# Altium footprint library SO芯片.PcbLib: 42 footprints (part 3 of 3)
Each footprint in its own frame and in the unit in brackets; x right, y up, seen from the top. Pads: shape width x height; smd on the part's side, far side on the other; paste and mask are expansions set on the pad; w line width, h text height; cw(c..) or ccw(c..) is an arc to the next point about the centre after c.
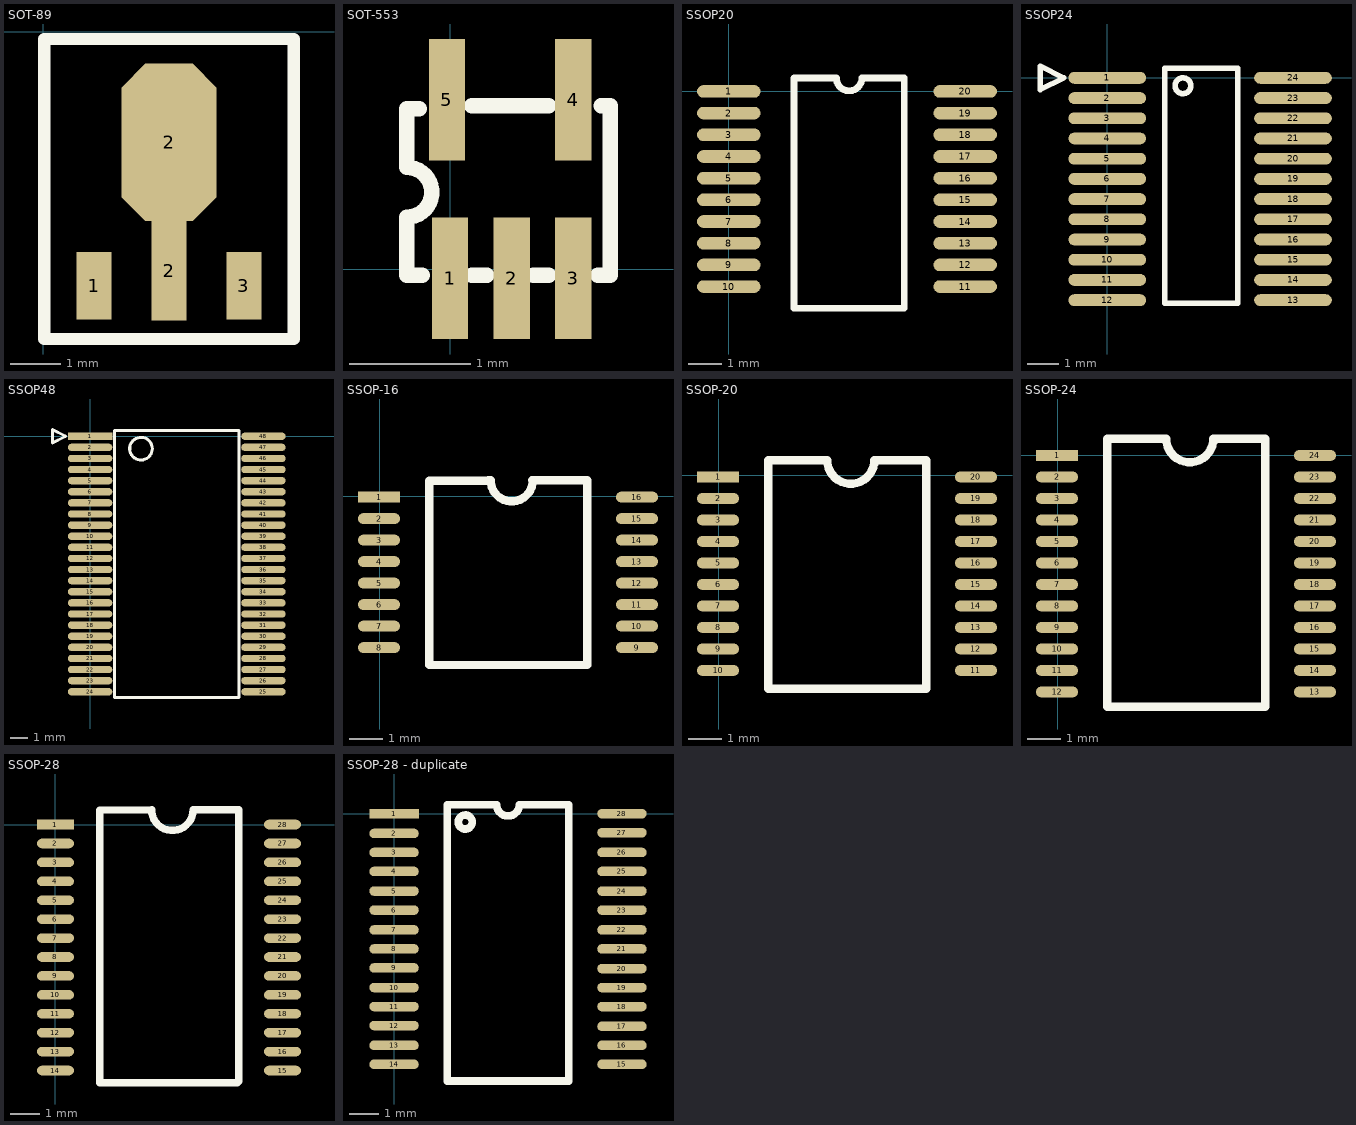
[diagram p2: the footprints below, top view; thin cyan lines are the x and y axes]

## SOT-89 [mm]
pads (4):
  rect 0.7x1.35 smd: 1(1.016,-5.08) 3(4.016,-5.08)
  rect 0.7x1.99 smd: 2(2.516,-4.785)
  oct 1.9x3.15 smd: 2(2.516,-2.215)
Top Overlay:
  lines w0.25: 0.016,-6.148 5.016,-6.148 5.016,-0.147 0.016,-0.147 0.016,-6.148

## SOT-553 [mm]
pads (5):
  rect 0.3x1 smd: 1(0,-0.076) 2(0.508,-0.076) 3(1.016,-0.076) 4(1.016,1.397) 5(-0.025,1.397)
Top Overlay:
  lines w0.127: -0.254,1.321 -0.356,1.321 -0.356,0.838 cw(c-0.356,0.633) -0.356,0.429 -0.356,-0.051 -0.229,-0.051 ; 0.178,-0.051 0.305,-0.051 ; 0.178,1.346 0.813,1.346 ; 0.686,-0.051 0.813,-0.051 ; 1.219,-0.051 1.321,-0.051 1.321,1.346 1.245,1.346

## SSOP20 [mm]
pads (20):
  oval 1.905x0.38 smd: 1(0,0) 2(0,-0.65) 3(0,-1.3) 4(0,-1.95) 5(0,-2.6) 6(0,-3.25) 7(0,-3.9) 8(0,-4.55) 9(0,-5.2) 10(0,-5.85) 11(7.087,-5.85) 12(7.087,-5.2) 13(7.087,-4.55) 14(7.087,-3.9) 15(7.087,-3.25) 16(7.087,-2.6) 17(7.087,-1.95) 18(7.087,-1.3) 19(7.087,-0.65) 20(7.087,0)
Top Overlay:
  lines w0.203: 1.956,-6.502 1.956,0.398 3.226,0.398 ccw(c3.607,0.398) 3.988,0.398 5.258,0.398 5.258,-6.502 1.956,-6.502

## SSOP24 [mm]
pads (24):
  oval 2.5x0.381 smd: 1(0,0) 2(0,-0.65) 3(0,-1.3) 4(0,-1.95) 5(0,-2.6) 6(0,-3.25) 7(0,-3.9) 8(0,-4.55) 9(0,-5.2) 10(0,-5.85) 11(0,-6.5) 12(0,-7.15) 13(5.975,-7.15) 14(5.975,-6.5) 15(5.975,-5.85) 16(5.975,-5.2) 17(5.975,-4.55) 18(5.975,-3.9) 19(5.975,-3.25) 20(5.975,-2.6) 21(5.975,-1.95) 22(5.975,-1.3) 23(5.975,-0.65) 24(5.975,0)
Top Overlay:
  circle w0.178: c2.434,-0.254 r0.254
  lines w0.178: -2.159,-0.381 -1.397,0 -2.159,0.381 -2.159,-0.381 ; 1.852,-7.245 4.198,-7.245 4.198,0.315 1.852,0.315 1.852,-7.245

## SSOP48 [mm]
pads (48):
  rect 2.54x0.42 smd: 1(0,0)
  oval 2.54x0.42 smd: 2(0,-0.635) 3(0,-1.27) 4(0,-1.905) 5(0,-2.54) 6(0,-3.175) 7(0,-3.81) 8(0,-4.445) 9(0,-5.08) 10(0,-5.715) 11(0,-6.35) 12(0,-6.985) 13(0,-7.62) 14(0,-8.255) 15(0,-8.89) 16(0,-9.525) 17(0,-10.16) 18(0,-10.795) 19(0,-11.43) 20(0,-12.065) 21(0,-12.7) 22(0,-13.335) 23(0,-13.97) 24(0,-14.605) 25(9.906,-14.605) 26(9.906,-13.97) 27(9.906,-13.335) 28(9.906,-12.7) 29(9.906,-12.065) 30(9.906,-11.43) 31(9.906,-10.795) 32(9.906,-10.16) 33(9.906,-9.525) 34(9.906,-8.89) 35(9.906,-8.255) 36(9.906,-7.62) 37(9.906,-6.985) 38(9.906,-6.35) 39(9.906,-5.715) 40(9.906,-5.08) 41(9.906,-4.445) 42(9.906,-3.81) 43(9.906,-3.175) 44(9.906,-2.54) 45(9.906,-1.905) 46(9.906,-1.27) 47(9.906,-0.635) 48(9.906,0)
Top Overlay:
  circle w0.178: c2.908,-0.711 r0.648
  lines w0.178: -2.159,-0.381 -2.159,0.381 -1.397,0 -2.159,-0.381 ; 1.397,-14.922 8.509,-14.922 8.509,0.318 1.397,0.318 1.397,-14.922

## SSOP-16 [mm]
pads (16):
  rect 1.27x0.33 smd: 1(-0.025,-0.025)
  oval 1.27x0.33 smd: 2(-0.025,-0.675) 3(-0.025,-1.325) 4(-0.025,-1.975) 5(-0.025,-2.625) 6(-0.025,-3.275) 7(-0.025,-3.925) 8(-0.025,-4.575) 9(7.775,-4.575) 10(7.775,-3.925) 11(7.775,-3.275) 12(7.775,-2.625) 13(7.775,-1.975) 14(7.775,-1.325) 15(7.775,-0.675) 16(7.775,-0.025)
Top Overlay:
  lines w0.254: 1.499,-5.1 1.499,0.475 3.269,0.475 3.277,0.483 ; 1.549,-5.1 6.274,-5.1 6.274,0.475 6.266,0.483 4.6,0.483 ; 3.353,0.483 ccw(c3.988,0.483) 4.623,0.483

## SSOP-20 [mm]
pads (20):
  rect 1.27x0.33 smd: 1(-0.025,-0.051)
  oval 1.27x0.33 smd: 2(-0.025,-0.701) 3(-0.025,-1.351) 4(-0.025,-2.001) 5(-0.025,-2.651) 6(-0.025,-3.301) 7(-0.025,-3.951) 8(-0.025,-4.601) 9(-0.025,-5.251) 10(-0.025,-5.901) 11(7.775,-5.901) 12(7.775,-5.251) 13(7.775,-4.601) 14(7.775,-3.951) 15(7.775,-3.301) 16(7.775,-2.651) 17(7.775,-2.001) 18(7.775,-1.351) 19(7.775,-0.701) 20(7.775,-0.051)
Top Overlay:
  lines w0.254: 6.223,-6.45 1.499,-6.45 1.499,0.449 3.269,0.449 3.277,0.457 ccw(c3.99,0.457) 4.703,0.457 6.266,0.457 6.274,0.449 6.274,-6.45

## SSOP-24 [mm]
pads (24):
  rect 1.27x0.33 smd: 1(-0.025,0)
  oval 1.27x0.33 smd: 2(-0.025,-0.65) 3(-0.025,-1.3) 4(-0.025,-1.95) 5(-0.025,-2.6) 6(-0.025,-3.25) 7(-0.025,-3.9) 8(-0.025,-4.55) 9(-0.025,-5.2) 10(-0.025,-5.85) 11(-0.025,-6.5) 12(-0.025,-7.15) 13(7.775,-7.15) 14(7.775,-6.5) 15(7.775,-5.85) 16(7.775,-5.2) 17(7.775,-4.55) 18(7.775,-3.9) 19(7.775,-3.25) 20(7.775,-2.6) 21(7.775,-1.95) 22(7.775,-1.3) 23(7.775,-0.65) 24(7.775,0)
Top Overlay:
  lines w0.254: 6.223,-7.6 1.499,-7.6 1.499,0.5 3.269,0.5 3.277,0.508 ccw(c3.99,0.508) 4.703,0.508 6.266,0.508 6.274,0.5 6.274,-7.6

## SSOP-28 [mm]
pads (28):
  rect 1.27x0.33 smd: 1(0,0)
  oval 1.27x0.33 smd: 2(0,-0.65) 3(0,-1.3) 4(0,-1.95) 5(0,-2.6) 6(0,-3.25) 7(0,-3.9) 8(0,-4.55) 9(0,-5.2) 10(0,-5.85) 11(0,-6.5) 12(0,-7.15) 13(0,-7.8) 14(0,-8.45) 15(7.8,-8.45) 16(7.8,-7.8) 17(7.8,-7.15) 18(7.8,-6.5) 19(7.8,-5.85) 20(7.8,-5.2) 21(7.8,-4.55) 22(7.8,-3.9) 23(7.8,-3.25) 24(7.8,-2.6) 25(7.8,-1.95) 26(7.8,-1.3) 27(7.8,-0.65) 28(7.8,0)
Top Overlay:
  lines w0.254: 1.524,-8.865 1.524,0.5 3.294,0.5 3.302,0.508 ccw(c4.015,0.508) 4.728,0.508 6.291,0.508 6.299,0.5 6.299,-8.814 6.248,-8.865 1.524,-8.865

## SSOP-28 - duplicate [mil]
pads (28):
  rect 65x12.5 smd: 1(0,0)
  oval 65x12.5 smd: 2(0,-26) 3(0,-51) 4(0,-76) 5(0,-102) 6(0,-127) 7(0,-153) 8(0,-178) 9(0,-203) 10(0,-229) 11(0,-254) 12(0,-279) 13(0,-305) 14(0,-330) 15(300,-330) 16(300,-305) 17(300,-280) 18(300,-254) 19(300,-229) 20(300,-204) 21(300,-178) 22(300,-153) 23(300,-127) 24(300,-102) 25(300,-76) 26(300,-51) 27(300,-25) 28(300,0)
Top Overlay:
  circle w10: c93.78,-11 r9.22
  lines w10: 70,-352 70,12 135,12 ccw(c150,12) 165,12 230,12 230,-352 70,-352